# EAGLE library part DRV8848PWPR (library routed-micromouse-board 1.1.2)
None
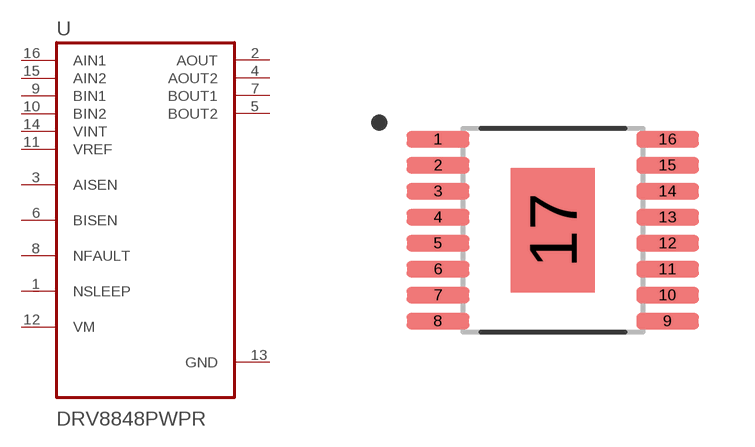
[diagram p1: symbol with the pads of SOP65P640X120-17N; footprint SOP65P640X120-17N]

Designator prefix U

## DRV8848PWPR (AVAILABILITY: Unavailable; DESCRIPTION: 2A Dual H-Bridge Motor Driver _PWM Control_ 16-HTSSOP -40 to 85; MF: Texas Instruments; MP: DRV8848PWPR; PACKAGE: HTSSOP-16 Texas Instruments; PRICE: None)  [SOP65P640X120-17N]
1  NSLEEP
2  AOUT  out
3  AISEN
4  AOUT2  out
5  BOUT2  out
6  BISEN
7  BOUT1  out
8  NFAULT
9  BIN1  in
10  BIN2  in
11  VREF  in
12  VM
13  GND  pwr
14  VINT  in
15  AIN2  in
16  AIN1  in

## Footprint SOP65P640X120-17N (pad centres in mm)
smd 1.57 x 0.41: 1 -2.87,2.275; 2 -2.87,1.625; 3 -2.87,0.975; 4 -2.87,0.325; 5 -2.87,-0.325; 6 -2.87,-0.975; 7 -2.87,-1.625; 8 -2.87,-2.275; 9 2.87,-2.275; 10 2.87,-1.625; 11 2.87,-0.975; 12 2.87,-0.325; 13 2.87,0.325; 14 2.87,0.975; 15 2.87,1.625; 16 2.87,2.275
smd 2.105 x 3.115: 17 0,0